# EAGLE library part STA5100 (library Audio-Power-amlifier V.2.0)
The STA5100 is a fully integrated power module designed to implement a BASH® amplifier when used in conjunction with STABP01 digital processor.
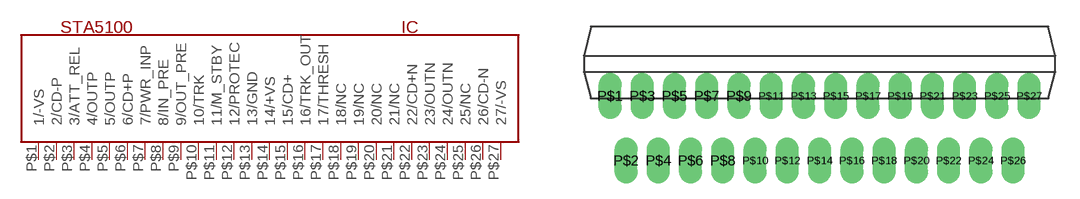
[diagram p235: symbol with the pads of FLEXIWATT27; footprint FLEXIWATT27]

Designator prefix IC

## STA5100  [FLEXIWATT27]
P$1  1/-VS  pwr
P$2  2/CD-P  pwr
P$3  3/ATT_REL
P$4  4/OUTP  out
P$5  5/OUTP  out
P$6  6/CD+P  pwr
P$7  7/PWR_INP  in
P$8  8/IN_PRE  in
P$9  9/OUT_PRE  out
P$10  10/TRK  in
P$11  11/M_STBY  in
P$12  12/PROTEC
P$13  13/GND  pwr
P$14  14/+VS  pwr
P$15  15/CD+  pwr
P$16  16/TRK_OUT  out
P$17  17/THRESH  in
P$18  18/NC  nc
P$19  19/NC  nc
P$20  20/NC  nc
P$21  21/NC  nc
P$22  22/CD+N  pwr
P$23  23/OUTN  out
P$24  24/OUTN  out
P$25  25/NC  nc
P$26  26/CD-N  pwr
P$27  27/-VS  pwr

## Footprint FLEXIWATT27 (pad centres in mm)
Flexiwatt27
drill 0.7 pad 1.422 long: P$1 -13,0; P$2 -12,-4; P$3 -11,0; P$4 -10,-4; P$5 -9,0; P$6 -8,-4; P$7 -7,0; P$8 -6,-4; P$9 -5,0; P$10 -4,-4; P$11 -3,0; P$12 -2,-4; P$13 -1,0; P$14 0,-4; P$15 1,0; P$16 2,-4; P$17 3,0; P$18 4,-4; P$19 5,0; P$20 6,-4; P$21 7,0; P$22 8,-4; P$23 9,0; P$24 10,-4; P$25 11,0; P$26 12,-4; P$27 13,0